# Altium integrated library FPGA Memories.IntLib: 600 symbols (part 5 of 6)
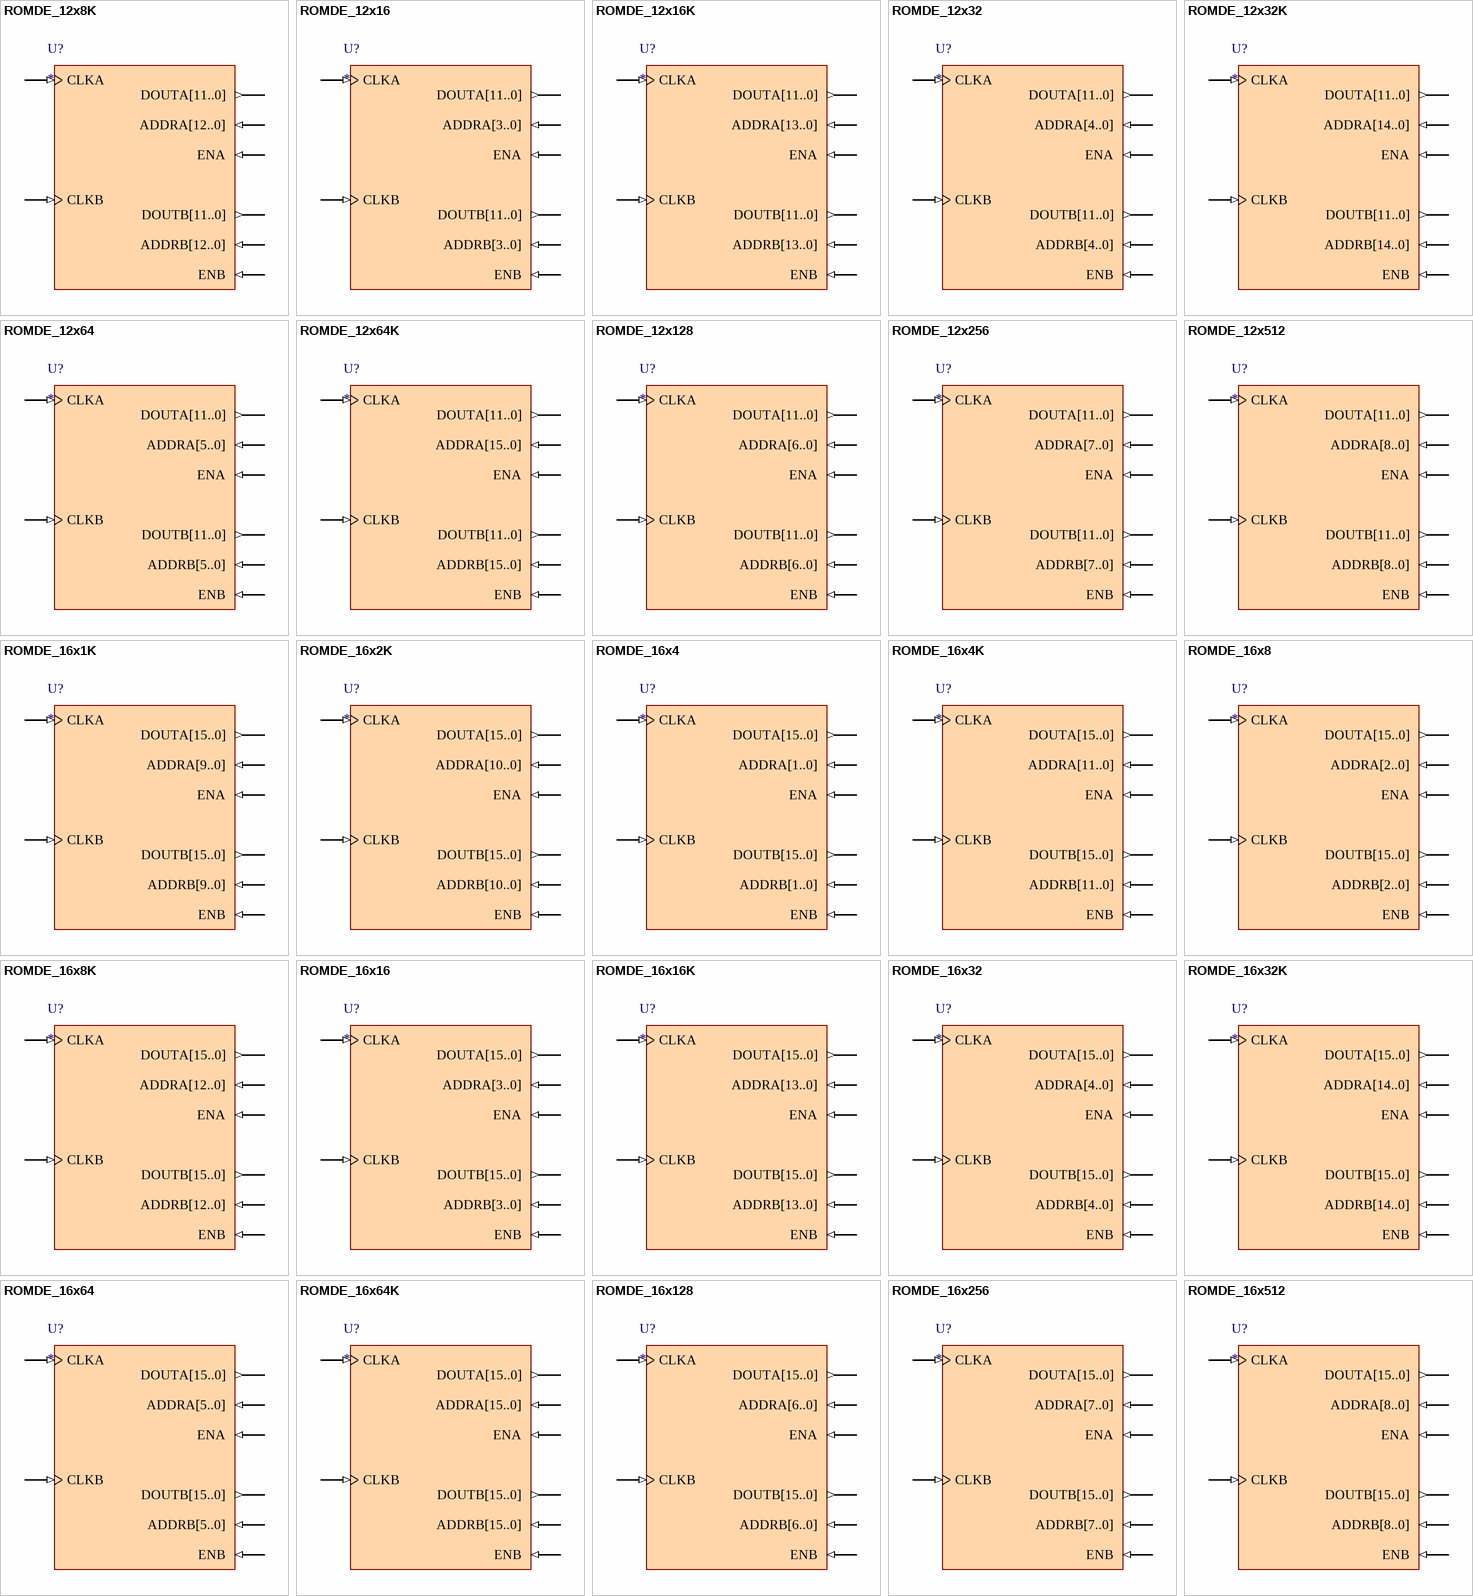
[diagram p24: symbols ROMDE_12x8K to ROMDE_16x512]

## ROMDE_12x16
designator U?
Dual Port ROM, Enable; Memory_DepthA: 16; Memory_Type: ROM_DualPortBlock; Memory_WidthA: 12; Memory_ClockEdge: Rising; Nexus_Core: Memory_Program; Memory_EnablePin: True; Memory_ByteWrites: False; Published: 11/10/2004; Publisher: Altium Hobart Technology Center; Memory_DepthB: 16; Memory_WidthB: 12
pins: ADDRA[3..0] (in), ADDRB[3..0] (in), CLKA (in), CLKB (in), DOUTA[11..0] (out), DOUTB[11..0] (out), ENA (in), ENB (in)

## ROMDE_12x16K
designator U?
Dual Port ROM, Enable; Memory_DepthA: 16384; Memory_Type: ROM_DualPortBlock; Memory_WidthA: 12; Memory_ClockEdge: Rising; Nexus_Core: Memory_Program; Memory_EnablePin: True; Memory_ByteWrites: False; Published: 11/10/2004; Publisher: Altium Hobart Technology Center; Memory_DepthB: 16384; Memory_WidthB: 12
pins: ADDRA[13..0] (in), ADDRB[13..0] (in), CLKA (in), CLKB (in), DOUTA[11..0] (out), DOUTB[11..0] (out), ENA (in), ENB (in)

## ROMDE_12x32
designator U?
Dual Port ROM, Enable; Memory_DepthA: 32; Memory_Type: ROM_DualPortBlock; Memory_WidthA: 12; Memory_ClockEdge: Rising; Nexus_Core: Memory_Program; Memory_EnablePin: True; Memory_ByteWrites: False; Published: 11/10/2004; Publisher: Altium Hobart Technology Center; Memory_DepthB: 32; Memory_WidthB: 12
pins: ADDRA[4..0] (in), ADDRB[4..0] (in), CLKA (in), CLKB (in), DOUTA[11..0] (out), DOUTB[11..0] (out), ENA (in), ENB (in)

## ROMDE_12x32K
designator U?
Dual Port ROM, Enable; Memory_DepthA: 32768; Memory_Type: ROM_DualPortBlock; Memory_WidthA: 12; Memory_ClockEdge: Rising; Nexus_Core: Memory_Program; Memory_EnablePin: True; Memory_ByteWrites: False; Published: 11/10/2004; Publisher: Altium Hobart Technology Center; Memory_DepthB: 32768; Memory_WidthB: 12
pins: ADDRA[14..0] (in), ADDRB[14..0] (in), CLKA (in), CLKB (in), DOUTA[11..0] (out), DOUTB[11..0] (out), ENA (in), ENB (in)

## ROMDE_12x64
designator U?
Dual Port ROM, Enable; Memory_DepthA: 64; Memory_Type: ROM_DualPortBlock; Memory_WidthA: 12; Memory_ClockEdge: Rising; Nexus_Core: Memory_Program; Memory_EnablePin: True; Memory_ByteWrites: False; Published: 11/10/2004; Publisher: Altium Hobart Technology Center; Memory_DepthB: 64; Memory_WidthB: 12
pins: ADDRA[5..0] (in), ADDRB[5..0] (in), CLKA (in), CLKB (in), DOUTA[11..0] (out), DOUTB[11..0] (out), ENA (in), ENB (in)

## ROMDE_12x64K
designator U?
Dual Port ROM, Enable; Memory_DepthA: 65536; Memory_Type: ROM_DualPortBlock; Memory_WidthA: 12; Memory_ClockEdge: Rising; Nexus_Core: Memory_Program; Memory_EnablePin: True; Memory_ByteWrites: False; Published: 11/10/2004; Publisher: Altium Hobart Technology Center; Memory_DepthB: 65536; Memory_WidthB: 12
pins: ADDRA[15..0] (in), ADDRB[15..0] (in), CLKA (in), CLKB (in), DOUTA[11..0] (out), DOUTB[11..0] (out), ENA (in), ENB (in)

## ROMDE_12x128
designator U?
Dual Port ROM, Enable; Memory_DepthA: 128; Memory_Type: ROM_DualPortBlock; Memory_WidthA: 12; Memory_ClockEdge: Rising; Nexus_Core: Memory_Program; Memory_EnablePin: True; Memory_ByteWrites: False; Published: 11/10/2004; Publisher: Altium Hobart Technology Center; Memory_DepthB: 128; Memory_WidthB: 12
pins: ADDRA[6..0] (in), ADDRB[6..0] (in), CLKA (in), CLKB (in), DOUTA[11..0] (out), DOUTB[11..0] (out), ENA (in), ENB (in)

## ROMDE_12x256
designator U?
Dual Port ROM, Enable; Memory_DepthA: 256; Memory_Type: ROM_DualPortBlock; Memory_WidthA: 12; Memory_ClockEdge: Rising; Nexus_Core: Memory_Program; Memory_EnablePin: True; Memory_ByteWrites: False; Published: 11/10/2004; Publisher: Altium Hobart Technology Center; Memory_DepthB: 256; Memory_WidthB: 12
pins: ADDRA[7..0] (in), ADDRB[7..0] (in), CLKA (in), CLKB (in), DOUTA[11..0] (out), DOUTB[11..0] (out), ENA (in), ENB (in)

## ROMDE_12x512
designator U?
Dual Port ROM, Enable; Memory_DepthA: 512; Memory_Type: ROM_DualPortBlock; Memory_WidthA: 12; Memory_ClockEdge: Rising; Nexus_Core: Memory_Program; Memory_EnablePin: True; Memory_ByteWrites: False; Published: 11/10/2004; Publisher: Altium Hobart Technology Center; Memory_DepthB: 512; Memory_WidthB: 12
pins: ADDRA[8..0] (in), ADDRB[8..0] (in), CLKA (in), CLKB (in), DOUTA[11..0] (out), DOUTB[11..0] (out), ENA (in), ENB (in)

## ROMDE_16x1K
designator U?
Dual Port ROM, Enable; Memory_DepthA: 1024; Memory_Type: ROM_DualPortBlock; Memory_WidthA: 16; Memory_ClockEdge: Rising; Nexus_Core: Memory_Program; Memory_EnablePin: True; Memory_ByteWrites: False; Published: 11/10/2004; Publisher: Altium Hobart Technology Center; Memory_DepthB: 1024; Memory_WidthB: 16
pins: ADDRA[9..0] (in), ADDRB[9..0] (in), CLKA (in), CLKB (in), DOUTA[15..0] (out), DOUTB[15..0] (out), ENA (in), ENB (in)

## ROMDE_16x2K
designator U?
Dual Port ROM, Enable; Memory_DepthA: 2048; Memory_Type: ROM_DualPortBlock; Memory_WidthA: 16; Memory_ClockEdge: Rising; Nexus_Core: Memory_Program; Memory_EnablePin: True; Memory_ByteWrites: False; Published: 11/10/2004; Publisher: Altium Hobart Technology Center; Memory_DepthB: 2048; Memory_WidthB: 16
pins: ADDRA[10..0] (in), ADDRB[10..0] (in), CLKA (in), CLKB (in), DOUTA[15..0] (out), DOUTB[15..0] (out), ENA (in), ENB (in)

## ROMDE_16x4
designator U?
Dual Port ROM, Enable; Memory_DepthA: 4; Memory_Type: ROM_DualPortBlock; Memory_WidthA: 16; Memory_ClockEdge: Rising; Nexus_Core: Memory_Program; Memory_EnablePin: True; Memory_ByteWrites: False; Published: 11/10/2004; Publisher: Altium Hobart Technology Center; Memory_DepthB: 4; Memory_WidthB: 16
pins: ADDRA[1..0] (in), ADDRB[1..0] (in), CLKA (in), CLKB (in), DOUTA[15..0] (out), DOUTB[15..0] (out), ENA (in), ENB (in)

## ROMDE_16x4K
designator U?
Dual Port ROM, Enable; Memory_DepthA: 4096; Memory_Type: ROM_DualPortBlock; Memory_WidthA: 16; Memory_ClockEdge: Rising; Nexus_Core: Memory_Program; Memory_EnablePin: True; Memory_ByteWrites: False; Published: 11/10/2004; Publisher: Altium Hobart Technology Center; Memory_DepthB: 4096; Memory_WidthB: 16
pins: ADDRA[11..0] (in), ADDRB[11..0] (in), CLKA (in), CLKB (in), DOUTA[15..0] (out), DOUTB[15..0] (out), ENA (in), ENB (in)

## ROMDE_16x8
designator U?
Dual Port ROM, Enable; Memory_DepthA: 8; Memory_Type: ROM_DualPortBlock; Memory_WidthA: 16; Memory_ClockEdge: Rising; Nexus_Core: Memory_Program; Memory_EnablePin: True; Memory_ByteWrites: False; Published: 11/10/2004; Publisher: Altium Hobart Technology Center; Memory_DepthB: 8; Memory_WidthB: 16
pins: ADDRA[2..0] (in), ADDRB[2..0] (in), CLKA (in), CLKB (in), DOUTA[15..0] (out), DOUTB[15..0] (out), ENA (in), ENB (in)

## ROMDE_16x8K
designator U?
Dual Port ROM, Enable; Memory_DepthA: 8192; Memory_Type: ROM_DualPortBlock; Memory_WidthA: 16; Memory_ClockEdge: Rising; Nexus_Core: Memory_Program; Memory_EnablePin: True; Memory_ByteWrites: False; Published: 11/10/2004; Publisher: Altium Hobart Technology Center; Memory_DepthB: 8192; Memory_WidthB: 16
pins: ADDRA[12..0] (in), ADDRB[12..0] (in), CLKA (in), CLKB (in), DOUTA[15..0] (out), DOUTB[15..0] (out), ENA (in), ENB (in)

## ROMDE_16x16
designator U?
Dual Port ROM, Enable; Memory_DepthA: 16; Memory_Type: ROM_DualPortBlock; Memory_ClockEdge: Rising; Nexus_Core: Memory_Program; Memory_EnablePin: True; Memory_ByteWrites: False; Published: 11/10/2004; Publisher: Altium Hobart Technology Center; Memory_DepthB: 16; Memory_WidthA: 16; Memory_WidthB: 16
pins: ADDRA[3..0] (in), ADDRB[3..0] (in), CLKA (in), CLKB (in), DOUTA[15..0] (out), DOUTB[15..0] (out), ENA (in), ENB (in)

## ROMDE_16x16K
designator U?
Dual Port ROM, Enable; Memory_DepthA: 16384; Memory_Type: ROM_DualPortBlock; Memory_WidthA: 16; Memory_ClockEdge: Rising; Nexus_Core: Memory_Program; Memory_EnablePin: True; Memory_ByteWrites: False; Published: 11/10/2004; Publisher: Altium Hobart Technology Center; Memory_DepthB: 16384; Memory_WidthB: 16
pins: ADDRA[13..0] (in), ADDRB[13..0] (in), CLKA (in), CLKB (in), DOUTA[15..0] (out), DOUTB[15..0] (out), ENA (in), ENB (in)

## ROMDE_16x32
designator U?
Dual Port ROM, Enable; Memory_DepthA: 32; Memory_Type: ROM_DualPortBlock; Memory_WidthA: 16; Memory_ClockEdge: Rising; Nexus_Core: Memory_Program; Memory_EnablePin: True; Memory_ByteWrites: False; Published: 11/10/2004; Publisher: Altium Hobart Technology Center; Memory_DepthB: 32; Memory_WidthB: 16
pins: ADDRA[4..0] (in), ADDRB[4..0] (in), CLKA (in), CLKB (in), DOUTA[15..0] (out), DOUTB[15..0] (out), ENA (in), ENB (in)

## ROMDE_16x32K
designator U?
Dual Port ROM, Enable; Memory_DepthA: 32768; Memory_Type: ROM_DualPortBlock; Memory_WidthA: 16; Memory_ClockEdge: Rising; Nexus_Core: Memory_Program; Memory_EnablePin: True; Memory_ByteWrites: False; Published: 11/10/2004; Publisher: Altium Hobart Technology Center; Memory_DepthB: 32768; Memory_WidthB: 16
pins: ADDRA[14..0] (in), ADDRB[14..0] (in), CLKA (in), CLKB (in), DOUTA[15..0] (out), DOUTB[15..0] (out), ENA (in), ENB (in)

## ROMDE_16x64
designator U?
Dual Port ROM, Enable; Memory_DepthA: 64; Memory_Type: ROM_DualPortBlock; Memory_WidthA: 16; Memory_ClockEdge: Rising; Nexus_Core: Memory_Program; Memory_EnablePin: True; Memory_ByteWrites: False; Published: 11/10/2004; Publisher: Altium Hobart Technology Center; Memory_DepthB: 64; Memory_WidthB: 16
pins: ADDRA[5..0] (in), ADDRB[5..0] (in), CLKA (in), CLKB (in), DOUTA[15..0] (out), DOUTB[15..0] (out), ENA (in), ENB (in)

## ROMDE_16x64K
designator U?
Dual Port ROM, Enable; Memory_DepthA: 65536; Memory_Type: ROM_DualPortBlock; Memory_WidthA: 16; Memory_ClockEdge: Rising; Nexus_Core: Memory_Program; Memory_EnablePin: True; Memory_ByteWrites: False; Published: 11/10/2004; Publisher: Altium Hobart Technology Center; Memory_DepthB: 65536; Memory_WidthB: 16
pins: ADDRA[15..0] (in), ADDRB[15..0] (in), CLKA (in), CLKB (in), DOUTA[15..0] (out), DOUTB[15..0] (out), ENA (in), ENB (in)

## ROMDE_16x128
designator U?
Dual Port ROM, Enable; Memory_DepthA: 128; Memory_Type: ROM_DualPortBlock; Memory_WidthA: 16; Memory_ClockEdge: Rising; Nexus_Core: Memory_Program; Memory_EnablePin: True; Memory_ByteWrites: False; Published: 11/10/2004; Publisher: Altium Hobart Technology Center; Memory_DepthB: 128; Memory_WidthB: 16
pins: ADDRA[6..0] (in), ADDRB[6..0] (in), CLKA (in), CLKB (in), DOUTA[15..0] (out), DOUTB[15..0] (out), ENA (in), ENB (in)

## ROMDE_16x256
designator U?
Dual Port ROM, Enable; Memory_DepthA: 256; Memory_Type: ROM_DualPortBlock; Memory_WidthA: 16; Memory_ClockEdge: Rising; Nexus_Core: Memory_Program; Memory_EnablePin: True; Memory_ByteWrites: False; Published: 11/10/2004; Publisher: Altium Hobart Technology Center; Memory_DepthB: 256; Memory_WidthB: 16
pins: ADDRA[7..0] (in), ADDRB[7..0] (in), CLKA (in), CLKB (in), DOUTA[15..0] (out), DOUTB[15..0] (out), ENA (in), ENB (in)

## ROMDE_16x512
designator U?
Dual Port ROM, Enable; Memory_DepthA: 512; Memory_Type: ROM_DualPortBlock; Memory_WidthA: 16; Memory_ClockEdge: Rising; Nexus_Core: Memory_Program; Memory_EnablePin: True; Memory_ByteWrites: False; Published: 11/10/2004; Publisher: Altium Hobart Technology Center; Memory_DepthB: 512; Memory_WidthB: 16
pins: ADDRA[8..0] (in), ADDRB[8..0] (in), CLKA (in), CLKB (in), DOUTA[15..0] (out), DOUTB[15..0] (out), ENA (in), ENB (in)

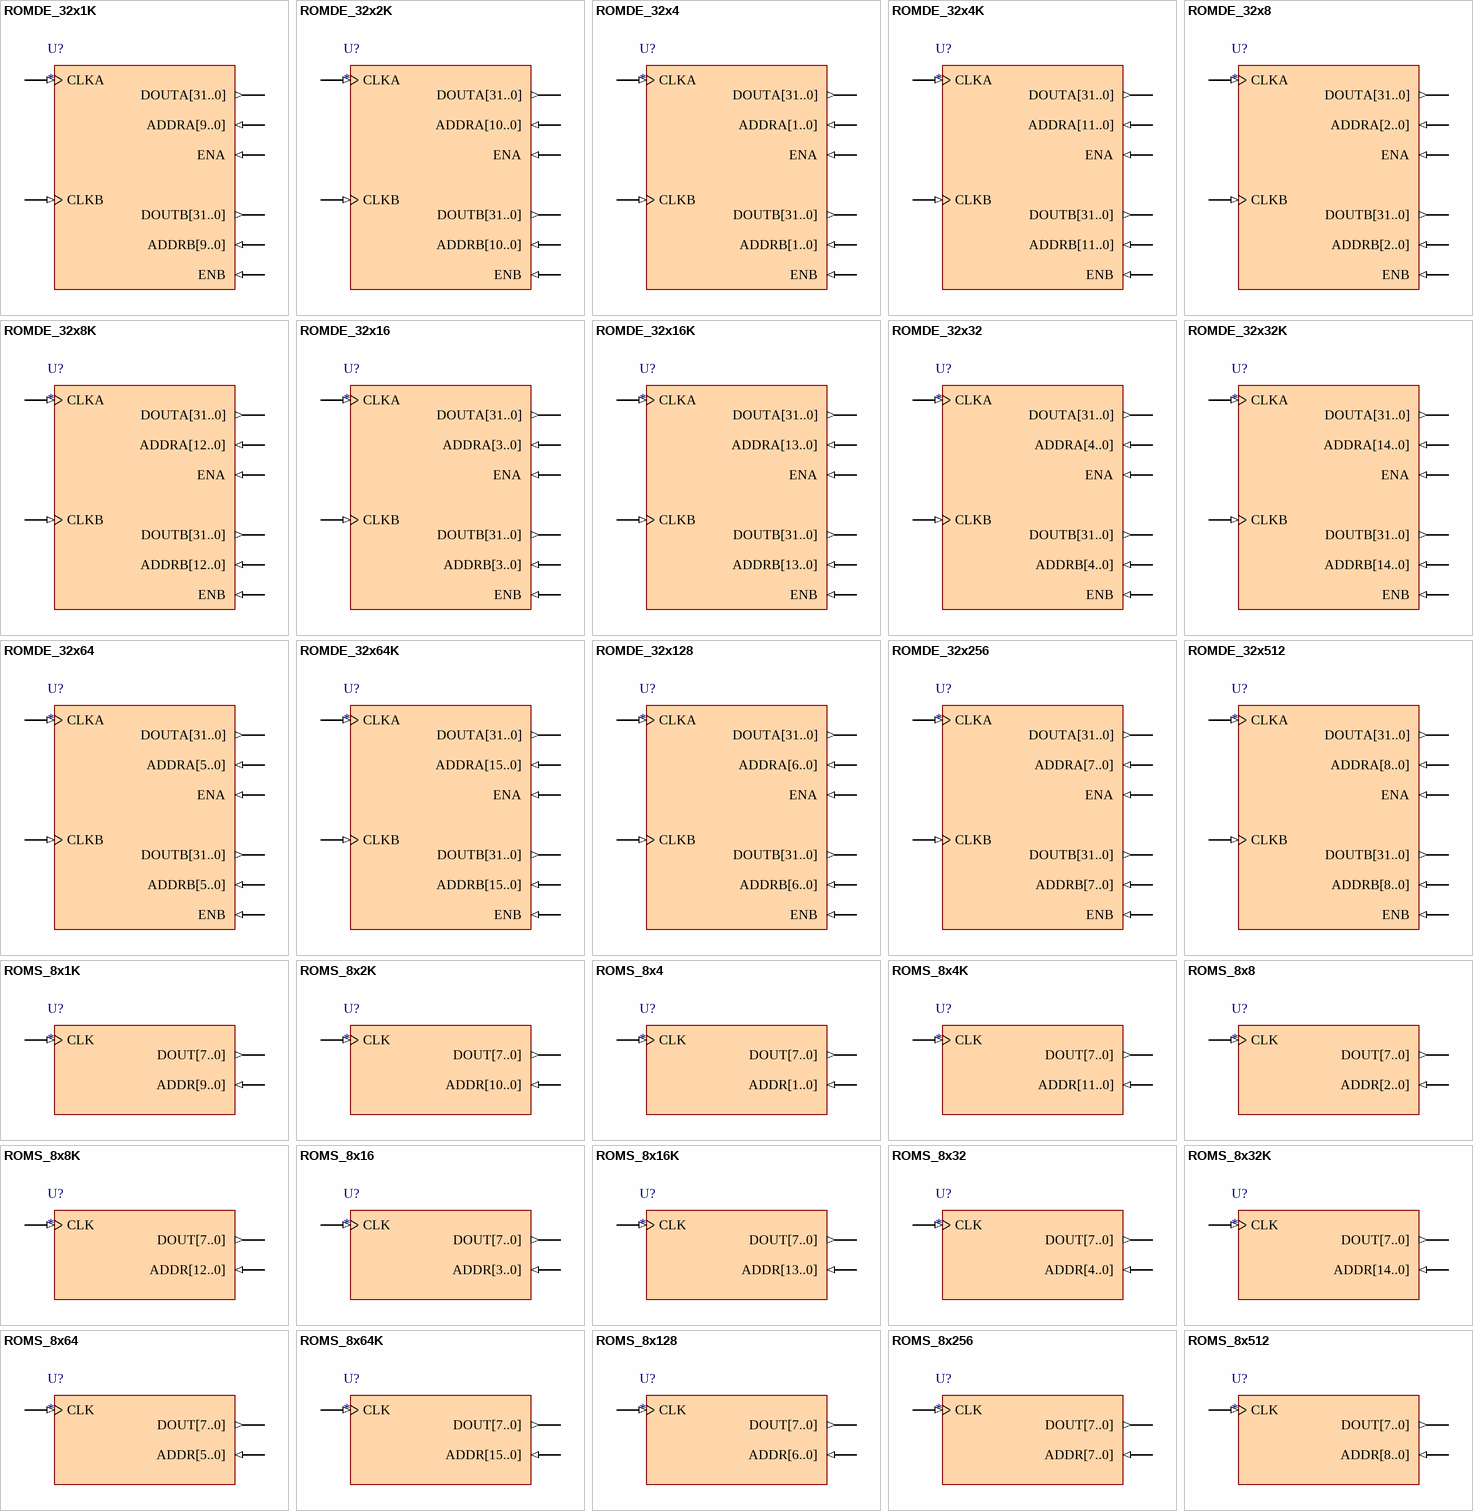
[diagram p17: symbols ROMDE_32x1K to ROMS_8x512]

## ROMDE_32x1K
designator U?
Dual Port ROM, Enable; Memory_DepthA: 1024; Memory_Type: ROM_DualPortBlock; Memory_WidthA: 32; Memory_ClockEdge: Rising; Nexus_Core: Memory_Program; Memory_EnablePin: True; Memory_ByteWrites: False; Published: 11/10/2004; Publisher: Altium Hobart Technology Center; Memory_DepthB: 1024; Memory_WidthB: 32
pins: ADDRA[9..0] (in), ADDRB[9..0] (in), CLKA (in), CLKB (in), DOUTA[31..0] (out), DOUTB[31..0] (out), ENA (in), ENB (in)

## ROMDE_32x2K
designator U?
Dual Port ROM, Enable; Memory_DepthA: 2048; Memory_Type: ROM_DualPortBlock; Memory_WidthA: 32; Memory_ClockEdge: Rising; Nexus_Core: Memory_Program; Memory_EnablePin: True; Memory_ByteWrites: False; Published: 11/10/2004; Publisher: Altium Hobart Technology Center; Memory_DepthB: 2048; Memory_WidthB: 32
pins: ADDRA[10..0] (in), ADDRB[10..0] (in), CLKA (in), CLKB (in), DOUTA[31..0] (out), DOUTB[31..0] (out), ENA (in), ENB (in)

## ROMDE_32x4
designator U?
Dual Port ROM, Enable; Memory_DepthA: 4; Memory_Type: ROM_DualPortBlock; Memory_WidthA: 32; Memory_ClockEdge: Rising; Nexus_Core: Memory_Program; Memory_EnablePin: True; Memory_ByteWrites: False; Published: 11/10/2004; Publisher: Altium Hobart Technology Center; Memory_DepthB: 4; Memory_WidthB: 32
pins: ADDRA[1..0] (in), ADDRB[1..0] (in), CLKA (in), CLKB (in), DOUTA[31..0] (out), DOUTB[31..0] (out), ENA (in), ENB (in)

## ROMDE_32x4K
designator U?
Dual Port ROM, Enable; Memory_DepthA: 4096; Memory_Type: ROM_DualPortBlock; Memory_WidthA: 32; Memory_ClockEdge: Rising; Nexus_Core: Memory_Program; Memory_EnablePin: True; Memory_ByteWrites: False; Published: 11/10/2004; Publisher: Altium Hobart Technology Center; Memory_DepthB: 4096; Memory_WidthB: 32
pins: ADDRA[11..0] (in), ADDRB[11..0] (in), CLKA (in), CLKB (in), DOUTA[31..0] (out), DOUTB[31..0] (out), ENA (in), ENB (in)

## ROMDE_32x8
designator U?
Dual Port ROM, Enable; Memory_DepthA: 8; Memory_Type: ROM_DualPortBlock; Memory_WidthA: 32; Memory_ClockEdge: Rising; Nexus_Core: Memory_Program; Memory_EnablePin: True; Memory_ByteWrites: False; Published: 11/10/2004; Publisher: Altium Hobart Technology Center; Memory_DepthB: 8; Memory_WidthB: 32
pins: ADDRA[2..0] (in), ADDRB[2..0] (in), CLKA (in), CLKB (in), DOUTA[31..0] (out), DOUTB[31..0] (out), ENA (in), ENB (in)

## ROMDE_32x8K
designator U?
Dual Port ROM, Enable; Memory_DepthA: 8192; Memory_Type: ROM_DualPortBlock; Memory_WidthA: 32; Memory_ClockEdge: Rising; Nexus_Core: Memory_Program; Memory_EnablePin: True; Memory_ByteWrites: False; Published: 11/10/2004; Publisher: Altium Hobart Technology Center; Memory_DepthB: 8192; Memory_WidthB: 32
pins: ADDRA[12..0] (in), ADDRB[12..0] (in), CLKA (in), CLKB (in), DOUTA[31..0] (out), DOUTB[31..0] (out), ENA (in), ENB (in)

## ROMDE_32x16
designator U?
Dual Port ROM, Enable; Memory_DepthA: 16; Memory_Type: ROM_DualPortBlock; Memory_WidthA: 32; Memory_ClockEdge: Rising; Nexus_Core: Memory_Program; Memory_EnablePin: True; Memory_ByteWrites: False; Published: 11/10/2004; Publisher: Altium Hobart Technology Center; Memory_DepthB: 16; Memory_WidthB: 32
pins: ADDRA[3..0] (in), ADDRB[3..0] (in), CLKA (in), CLKB (in), DOUTA[31..0] (out), DOUTB[31..0] (out), ENA (in), ENB (in)

## ROMDE_32x16K
designator U?
Dual Port ROM, Enable; Memory_DepthA: 16384; Memory_Type: ROM_DualPortBlock; Memory_WidthA: 32; Memory_ClockEdge: Rising; Nexus_Core: Memory_Program; Memory_EnablePin: True; Memory_ByteWrites: False; Published: 11/10/2004; Publisher: Altium Hobart Technology Center; Memory_DepthB: 16384; Memory_WidthB: 32
pins: ADDRA[13..0] (in), ADDRB[13..0] (in), CLKA (in), CLKB (in), DOUTA[31..0] (out), DOUTB[31..0] (out), ENA (in), ENB (in)

## ROMDE_32x32
designator U?
Dual Port ROM, Enable; Memory_DepthA: 32; Memory_Type: ROM_DualPortBlock; Memory_ClockEdge: Rising; Nexus_Core: Memory_Program; Memory_EnablePin: True; Memory_ByteWrites: False; Published: 11/10/2004; Publisher: Altium Hobart Technology Center; Memory_DepthB: 32; Memory_WidthA: 32; Memory_WidthB: 32
pins: ADDRA[4..0] (in), ADDRB[4..0] (in), CLKA (in), CLKB (in), DOUTA[31..0] (out), DOUTB[31..0] (out), ENA (in), ENB (in)

## ROMDE_32x32K
designator U?
Dual Port ROM, Enable; Memory_DepthA: 32768; Memory_Type: ROM_DualPortBlock; Memory_WidthA: 32; Memory_ClockEdge: Rising; Nexus_Core: Memory_Program; Memory_EnablePin: True; Memory_ByteWrites: False; Published: 11/10/2004; Publisher: Altium Hobart Technology Center; Memory_DepthB: 32768; Memory_WidthB: 32
pins: ADDRA[14..0] (in), ADDRB[14..0] (in), CLKA (in), CLKB (in), DOUTA[31..0] (out), DOUTB[31..0] (out), ENA (in), ENB (in)

## ROMDE_32x64
designator U?
Dual Port ROM, Enable; Memory_DepthA: 64; Memory_Type: ROM_DualPortBlock; Memory_WidthA: 32; Memory_ClockEdge: Rising; Nexus_Core: Memory_Program; Memory_EnablePin: True; Memory_ByteWrites: False; Published: 11/10/2004; Publisher: Altium Hobart Technology Center; Memory_DepthB: 64; Memory_WidthB: 32
pins: ADDRA[5..0] (in), ADDRB[5..0] (in), CLKA (in), CLKB (in), DOUTA[31..0] (out), DOUTB[31..0] (out), ENA (in), ENB (in)

## ROMDE_32x64K
designator U?
Dual Port ROM, Enable; Memory_DepthA: 65536; Memory_Type: ROM_DualPortBlock; Memory_WidthA: 32; Memory_ClockEdge: Rising; Nexus_Core: Memory_Program; Memory_EnablePin: True; Memory_ByteWrites: False; Published: 11/10/2004; Publisher: Altium Hobart Technology Center; Memory_DepthB: 65536; Memory_WidthB: 32
pins: ADDRA[15..0] (in), ADDRB[15..0] (in), CLKA (in), CLKB (in), DOUTA[31..0] (out), DOUTB[31..0] (out), ENA (in), ENB (in)

## ROMDE_32x128
designator U?
Dual Port ROM, Enable; Memory_DepthA: 128; Memory_Type: ROM_DualPortBlock; Memory_WidthA: 32; Memory_ClockEdge: Rising; Nexus_Core: Memory_Program; Memory_EnablePin: True; Memory_ByteWrites: False; Published: 11/10/2004; Publisher: Altium Hobart Technology Center; Memory_DepthB: 128; Memory_WidthB: 32
pins: ADDRA[6..0] (in), ADDRB[6..0] (in), CLKA (in), CLKB (in), DOUTA[31..0] (out), DOUTB[31..0] (out), ENA (in), ENB (in)

## ROMDE_32x256
designator U?
Dual Port ROM, Enable; Memory_DepthA: 256; Memory_Type: ROM_DualPortBlock; Memory_WidthA: 32; Memory_ClockEdge: Rising; Nexus_Core: Memory_Program; Memory_EnablePin: True; Memory_ByteWrites: False; Published: 11/10/2004; Publisher: Altium Hobart Technology Center; Memory_DepthB: 256; Memory_WidthB: 32
pins: ADDRA[7..0] (in), ADDRB[7..0] (in), CLKA (in), CLKB (in), DOUTA[31..0] (out), DOUTB[31..0] (out), ENA (in), ENB (in)

## ROMDE_32x512
designator U?
Dual Port ROM, Enable; Memory_DepthA: 512; Memory_Type: ROM_DualPortBlock; Memory_WidthA: 32; Memory_ClockEdge: Rising; Nexus_Core: Memory_Program; Memory_EnablePin: True; Memory_ByteWrites: False; Published: 11/10/2004; Publisher: Altium Hobart Technology Center; Memory_DepthB: 512; Memory_WidthB: 32
pins: ADDRA[8..0] (in), ADDRB[8..0] (in), CLKA (in), CLKB (in), DOUTA[31..0] (out), DOUTB[31..0] (out), ENA (in), ENB (in)

## ROMS_8x1K
designator U?
Single Port ROM; Memory_Depth: 1024; Memory_Type: ROM_SinglePortBlock; Memory_Width: 8; Memory_ClockEdge: Rising; Nexus_Core: Memory_Program; Memory_EnablePin: False; Published: 11/10/2004; Publisher: Altium Hobart Technology Center; Memory_ByteWrites: False
pins: ADDR[9..0] (in), CLK (in), DOUT[7..0] (out)

## ROMS_8x2K
designator U?
Single Port ROM; Memory_Depth: 2048; Memory_Type: ROM_SinglePortBlock; Memory_Width: 8; Memory_ClockEdge: Rising; Nexus_Core: Memory_Program; Memory_EnablePin: False; Published: 11/10/2004; Publisher: Altium Hobart Technology Center; Memory_ByteWrites: False
pins: ADDR[10..0] (in), CLK (in), DOUT[7..0] (out)

## ROMS_8x4
designator U?
Single Port ROM; Memory_Depth: 4; Memory_Type: ROM_SinglePortBlock; Memory_Width: 8; Memory_ClockEdge: Rising; Nexus_Core: Memory_Program; Memory_EnablePin: False; Published: 11/10/2004; Publisher: Altium Hobart Technology Center; Memory_ByteWrites: False
pins: ADDR[1..0] (in), CLK (in), DOUT[7..0] (out)

## ROMS_8x4K
designator U?
Single Port ROM; Memory_Depth: 4096; Memory_Type: ROM_SinglePortBlock; Memory_Width: 8; Memory_ClockEdge: Rising; Nexus_Core: Memory_Program; Memory_EnablePin: False; Published: 11/10/2004; Publisher: Altium Hobart Technology Center; Memory_ByteWrites: False
pins: ADDR[11..0] (in), CLK (in), DOUT[7..0] (out)

## ROMS_8x8
designator U?
Single Port ROM; Memory_Depth: 8; Memory_Type: ROM_SinglePortBlock; Memory_ClockEdge: Rising; Nexus_Core: Memory_Program; Memory_EnablePin: False; Published: 11/10/2004; Publisher: Altium Hobart Technology Center; Memory_Width: 8; Memory_ByteWrites: False
pins: ADDR[2..0] (in), CLK (in), DOUT[7..0] (out)

## ROMS_8x8K
designator U?
Single Port ROM; Memory_Depth: 8192; Memory_Type: ROM_SinglePortBlock; Memory_Width: 8; Memory_ClockEdge: Rising; Nexus_Core: Memory_Program; Memory_EnablePin: False; Published: 11/10/2004; Publisher: Altium Hobart Technology Center; Memory_ByteWrites: False
pins: ADDR[12..0] (in), CLK (in), DOUT[7..0] (out)

## ROMS_8x16
designator U?
Single Port ROM; Memory_Depth: 16; Memory_Type: ROM_SinglePortBlock; Memory_Width: 8; Memory_ClockEdge: Rising; Nexus_Core: Memory_Program; Memory_EnablePin: False; Published: 11/10/2004; Publisher: Altium Hobart Technology Center; Memory_ByteWrites: False
pins: ADDR[3..0] (in), CLK (in), DOUT[7..0] (out)

## ROMS_8x16K
designator U?
Single Port ROM; Memory_Depth: 16384; Memory_Type: ROM_SinglePortBlock; Memory_Width: 8; Memory_ClockEdge: Rising; Nexus_Core: Memory_Program; Memory_EnablePin: False; Published: 11/10/2004; Publisher: Altium Hobart Technology Center; Memory_ByteWrites: False
pins: ADDR[13..0] (in), CLK (in), DOUT[7..0] (out)

## ROMS_8x32
designator U?
Single Port ROM; Memory_Depth: 32; Memory_Type: ROM_SinglePortBlock; Memory_Width: 8; Memory_ClockEdge: Rising; Nexus_Core: Memory_Program; Memory_EnablePin: False; Published: 11/10/2004; Publisher: Altium Hobart Technology Center; Memory_ByteWrites: False
pins: ADDR[4..0] (in), CLK (in), DOUT[7..0] (out)

## ROMS_8x32K
designator U?
Single Port ROM; Memory_Depth: 32768; Memory_Type: ROM_SinglePortBlock; Memory_Width: 8; Memory_ClockEdge: Rising; Nexus_Core: Memory_Program; Memory_EnablePin: False; Published: 11/10/2004; Publisher: Altium Hobart Technology Center; Memory_ByteWrites: False
pins: ADDR[14..0] (in), CLK (in), DOUT[7..0] (out)

## ROMS_8x64
designator U?
Single Port ROM; Memory_Depth: 64; Memory_Type: ROM_SinglePortBlock; Memory_Width: 8; Memory_ClockEdge: Rising; Nexus_Core: Memory_Program; Memory_EnablePin: False; Published: 11/10/2004; Publisher: Altium Hobart Technology Center; Memory_ByteWrites: False
pins: ADDR[5..0] (in), CLK (in), DOUT[7..0] (out)

## ROMS_8x64K
designator U?
Single Port ROM; Memory_Depth: 65536; Memory_Type: ROM_SinglePortBlock; Memory_Width: 8; Memory_ClockEdge: Rising; Nexus_Core: Memory_Program; Memory_EnablePin: False; Published: 11/10/2004; Publisher: Altium Hobart Technology Center; Memory_ByteWrites: False
pins: ADDR[15..0] (in), CLK (in), DOUT[7..0] (out)

## ROMS_8x128
designator U?
Single Port ROM; Memory_Depth: 128; Memory_Type: ROM_SinglePortBlock; Memory_Width: 8; Memory_ClockEdge: Rising; Nexus_Core: Memory_Program; Memory_EnablePin: False; Published: 11/10/2004; Publisher: Altium Hobart Technology Center; Memory_ByteWrites: False
pins: ADDR[6..0] (in), CLK (in), DOUT[7..0] (out)

## ROMS_8x256
designator U?
Single Port ROM; Memory_Depth: 256; Memory_Type: ROM_SinglePortBlock; Memory_Width: 8; Memory_ClockEdge: Rising; Nexus_Core: Memory_Program; Memory_EnablePin: False; Published: 11/10/2004; Publisher: Altium Hobart Technology Center; Memory_ByteWrites: False
pins: ADDR[7..0] (in), CLK (in), DOUT[7..0] (out)

## ROMS_8x512
designator U?
Single Port ROM; Memory_Depth: 512; Memory_Type: ROM_SinglePortBlock; Memory_Width: 8; Memory_ClockEdge: Rising; Nexus_Core: Memory_Program; Memory_EnablePin: False; Published: 11/10/2004; Publisher: Altium Hobart Technology Center; Memory_ByteWrites: False
pins: ADDR[8..0] (in), CLK (in), DOUT[7..0] (out)

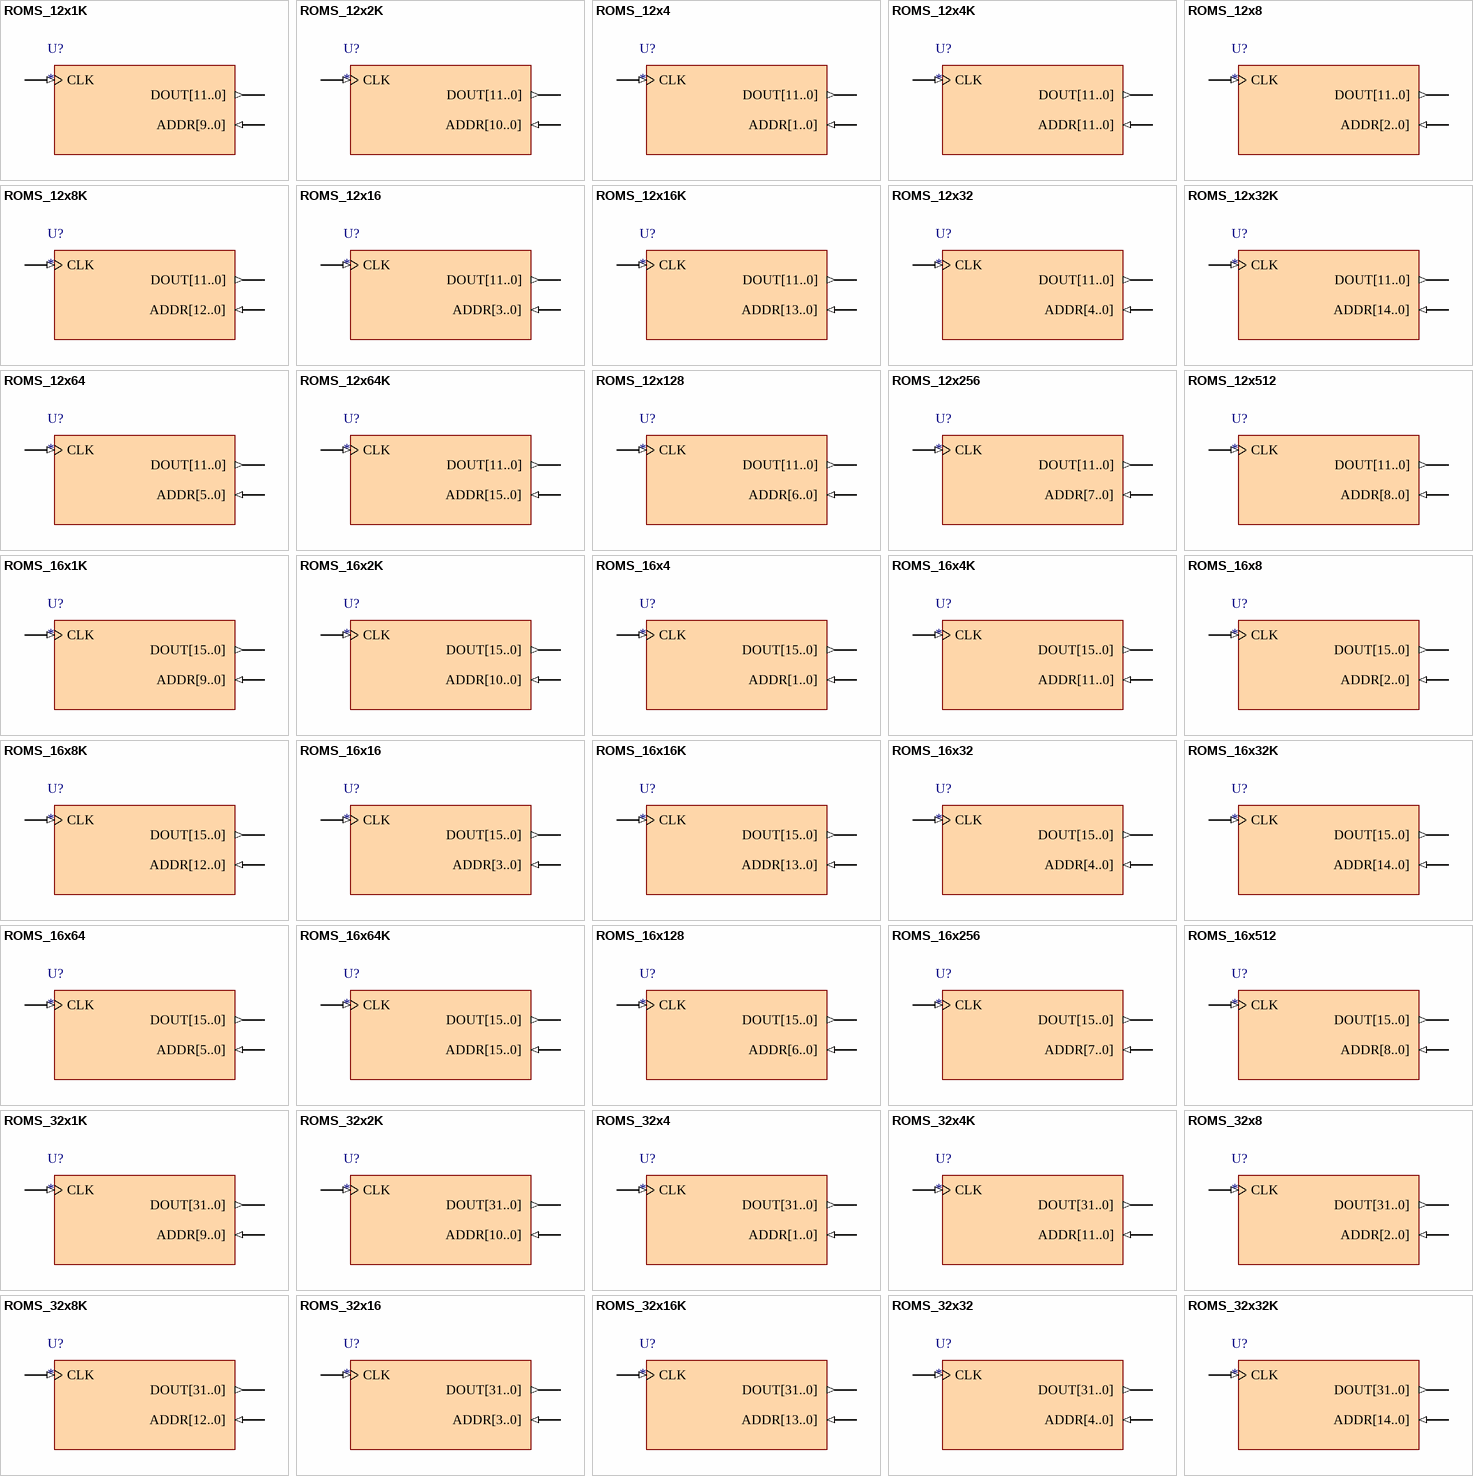
[diagram p18: symbols ROMS_12x1K to ROMS_32x32K]

## ROMS_12x1K
designator U?
Single Port ROM; Memory_Depth: 1024; Memory_Type: ROM_SinglePortBlock; Memory_Width: 12; Memory_ClockEdge: Rising; Nexus_Core: Memory_Program; Memory_EnablePin: False; Published: 11/10/2004; Publisher: Altium Hobart Technology Center; Memory_ByteWrites: False
pins: ADDR[9..0] (in), CLK (in), DOUT[11..0] (out)

## ROMS_12x2K
designator U?
Single Port ROM; Memory_Depth: 2048; Memory_Type: ROM_SinglePortBlock; Memory_Width: 12; Memory_ClockEdge: Rising; Nexus_Core: Memory_Program; Memory_EnablePin: False; Published: 11/10/2004; Publisher: Altium Hobart Technology Center; Memory_ByteWrites: False
pins: ADDR[10..0] (in), CLK (in), DOUT[11..0] (out)

## ROMS_12x4
designator U?
Single Port ROM; Memory_Depth: 4; Memory_Type: ROM_SinglePortBlock; Memory_Width: 12; Memory_ClockEdge: Rising; Nexus_Core: Memory_Program; Memory_EnablePin: False; Published: 11/10/2004; Publisher: Altium Hobart Technology Center; Memory_ByteWrites: False
pins: ADDR[1..0] (in), CLK (in), DOUT[11..0] (out)

## ROMS_12x4K
designator U?
Single Port ROM; Memory_Depth: 4096; Memory_Type: ROM_SinglePortBlock; Memory_Width: 12; Memory_ClockEdge: Rising; Nexus_Core: Memory_Program; Memory_EnablePin: False; Published: 11/10/2004; Publisher: Altium Hobart Technology Center; Memory_ByteWrites: False
pins: ADDR[11..0] (in), CLK (in), DOUT[11..0] (out)

## ROMS_12x8
designator U?
Single Port ROM; Memory_Depth: 8; Memory_Type: ROM_SinglePortBlock; Memory_Width: 12; Memory_ClockEdge: Rising; Nexus_Core: Memory_Program; Memory_EnablePin: False; Published: 11/10/2004; Publisher: Altium Hobart Technology Center; Memory_ByteWrites: False
pins: ADDR[2..0] (in), CLK (in), DOUT[11..0] (out)

## ROMS_12x8K
designator U?
Single Port ROM; Memory_Depth: 8192; Memory_Type: ROM_SinglePortBlock; Memory_Width: 12; Memory_ClockEdge: Rising; Nexus_Core: Memory_Program; Memory_EnablePin: False; Published: 11/10/2004; Publisher: Altium Hobart Technology Center; Memory_ByteWrites: False
pins: ADDR[12..0] (in), CLK (in), DOUT[11..0] (out)

## ROMS_12x16
designator U?
Single Port ROM; Memory_Depth: 16; Memory_Type: ROM_SinglePortBlock; Memory_Width: 12; Memory_ClockEdge: Rising; Nexus_Core: Memory_Program; Memory_EnablePin: False; Published: 11/10/2004; Publisher: Altium Hobart Technology Center; Memory_ByteWrites: False
pins: ADDR[3..0] (in), CLK (in), DOUT[11..0] (out)

## ROMS_12x16K
designator U?
Single Port ROM; Memory_Depth: 16384; Memory_Type: ROM_SinglePortBlock; Memory_Width: 12; Memory_ClockEdge: Rising; Nexus_Core: Memory_Program; Memory_EnablePin: False; Published: 11/10/2004; Publisher: Altium Hobart Technology Center; Memory_ByteWrites: False
pins: ADDR[13..0] (in), CLK (in), DOUT[11..0] (out)

## ROMS_12x32
designator U?
Single Port ROM; Memory_Depth: 32; Memory_Type: ROM_SinglePortBlock; Memory_Width: 12; Memory_ClockEdge: Rising; Nexus_Core: Memory_Program; Memory_EnablePin: False; Published: 11/10/2004; Publisher: Altium Hobart Technology Center; Memory_ByteWrites: False
pins: ADDR[4..0] (in), CLK (in), DOUT[11..0] (out)

## ROMS_12x32K
designator U?
Single Port ROM; Memory_Depth: 32768; Memory_Type: ROM_SinglePortBlock; Memory_Width: 12; Memory_ClockEdge: Rising; Nexus_Core: Memory_Program; Memory_EnablePin: False; Published: 11/10/2004; Publisher: Altium Hobart Technology Center; Memory_ByteWrites: False
pins: ADDR[14..0] (in), CLK (in), DOUT[11..0] (out)

## ROMS_12x64
designator U?
Single Port ROM; Memory_Depth: 64; Memory_Type: ROM_SinglePortBlock; Memory_Width: 12; Memory_ClockEdge: Rising; Nexus_Core: Memory_Program; Memory_EnablePin: False; Published: 11/10/2004; Publisher: Altium Hobart Technology Center; Memory_ByteWrites: False
pins: ADDR[5..0] (in), CLK (in), DOUT[11..0] (out)

## ROMS_12x64K
designator U?
Single Port ROM; Memory_Depth: 65536; Memory_Type: ROM_SinglePortBlock; Memory_Width: 12; Memory_ClockEdge: Rising; Nexus_Core: Memory_Program; Memory_EnablePin: False; Published: 11/10/2004; Publisher: Altium Hobart Technology Center; Memory_ByteWrites: False
pins: ADDR[15..0] (in), CLK (in), DOUT[11..0] (out)

## ROMS_12x128
designator U?
Single Port ROM; Memory_Depth: 128; Memory_Type: ROM_SinglePortBlock; Memory_Width: 12; Memory_ClockEdge: Rising; Nexus_Core: Memory_Program; Memory_EnablePin: False; Published: 11/10/2004; Publisher: Altium Hobart Technology Center; Memory_ByteWrites: False
pins: ADDR[6..0] (in), CLK (in), DOUT[11..0] (out)

## ROMS_12x256
designator U?
Single Port ROM; Memory_Depth: 256; Memory_Type: ROM_SinglePortBlock; Memory_Width: 12; Memory_ClockEdge: Rising; Nexus_Core: Memory_Program; Memory_EnablePin: False; Published: 11/10/2004; Publisher: Altium Hobart Technology Center; Memory_ByteWrites: False
pins: ADDR[7..0] (in), CLK (in), DOUT[11..0] (out)

## ROMS_12x512
designator U?
Single Port ROM; Memory_Depth: 512; Memory_Type: ROM_SinglePortBlock; Memory_Width: 12; Memory_ClockEdge: Rising; Nexus_Core: Memory_Program; Memory_EnablePin: False; Published: 11/10/2004; Publisher: Altium Hobart Technology Center; Memory_ByteWrites: False
pins: ADDR[8..0] (in), CLK (in), DOUT[11..0] (out)

## ROMS_16x1K
designator U?
Single Port ROM; Memory_Depth: 1024; Memory_Type: ROM_SinglePortBlock; Memory_Width: 16; Memory_ClockEdge: Rising; Nexus_Core: Memory_Program; Memory_EnablePin: False; Published: 11/10/2004; Publisher: Altium Hobart Technology Center; Memory_ByteWrites: False
pins: ADDR[9..0] (in), CLK (in), DOUT[15..0] (out)

## ROMS_16x2K
designator U?
Single Port ROM; Memory_Depth: 2048; Memory_Type: ROM_SinglePortBlock; Memory_Width: 16; Memory_ClockEdge: Rising; Nexus_Core: Memory_Program; Memory_EnablePin: False; Published: 11/10/2004; Publisher: Altium Hobart Technology Center; Memory_ByteWrites: False
pins: ADDR[10..0] (in), CLK (in), DOUT[15..0] (out)

## ROMS_16x4
designator U?
Single Port ROM; Memory_Depth: 4; Memory_Type: ROM_SinglePortBlock; Memory_Width: 16; Memory_ClockEdge: Rising; Nexus_Core: Memory_Program; Memory_EnablePin: False; Published: 11/10/2004; Publisher: Altium Hobart Technology Center; Memory_ByteWrites: False
pins: ADDR[1..0] (in), CLK (in), DOUT[15..0] (out)

## ROMS_16x4K
designator U?
Single Port ROM; Memory_Depth: 4096; Memory_Type: ROM_SinglePortBlock; Memory_Width: 16; Memory_ClockEdge: Rising; Nexus_Core: Memory_Program; Memory_EnablePin: False; Published: 11/10/2004; Publisher: Altium Hobart Technology Center; Memory_ByteWrites: False
pins: ADDR[11..0] (in), CLK (in), DOUT[15..0] (out)

## ROMS_16x8
designator U?
Single Port ROM; Memory_Depth: 8; Memory_Type: ROM_SinglePortBlock; Memory_Width: 16; Memory_ClockEdge: Rising; Nexus_Core: Memory_Program; Memory_EnablePin: False; Published: 11/10/2004; Publisher: Altium Hobart Technology Center; Memory_ByteWrites: False
pins: ADDR[2..0] (in), CLK (in), DOUT[15..0] (out)

## ROMS_16x8K
designator U?
Single Port ROM; Memory_Depth: 8192; Memory_Type: ROM_SinglePortBlock; Memory_Width: 16; Memory_ClockEdge: Rising; Nexus_Core: Memory_Program; Memory_EnablePin: False; Published: 11/10/2004; Publisher: Altium Hobart Technology Center; Memory_ByteWrites: False
pins: ADDR[12..0] (in), CLK (in), DOUT[15..0] (out)

## ROMS_16x16
designator U?
Single Port ROM; Memory_Depth: 16; Memory_Type: ROM_SinglePortBlock; Memory_ClockEdge: Rising; Nexus_Core: Memory_Program; Memory_EnablePin: False; Published: 11/10/2004; Publisher: Altium Hobart Technology Center; Memory_Width: 16; Memory_ByteWrites: False
pins: ADDR[3..0] (in), CLK (in), DOUT[15..0] (out)

## ROMS_16x16K
designator U?
Single Port ROM; Memory_Depth: 16384; Memory_Type: ROM_SinglePortBlock; Memory_Width: 16; Memory_ClockEdge: Rising; Nexus_Core: Memory_Program; Memory_EnablePin: False; Published: 11/10/2004; Publisher: Altium Hobart Technology Center; Memory_ByteWrites: False
pins: ADDR[13..0] (in), CLK (in), DOUT[15..0] (out)

## ROMS_16x32
designator U?
Single Port ROM; Memory_Depth: 32; Memory_Type: ROM_SinglePortBlock; Memory_Width: 16; Memory_ClockEdge: Rising; Nexus_Core: Memory_Program; Memory_EnablePin: False; Published: 11/10/2004; Publisher: Altium Hobart Technology Center; Memory_ByteWrites: False
pins: ADDR[4..0] (in), CLK (in), DOUT[15..0] (out)

## ROMS_16x32K
designator U?
Single Port ROM; Memory_Depth: 32768; Memory_Type: ROM_SinglePortBlock; Memory_Width: 16; Memory_ClockEdge: Rising; Nexus_Core: Memory_Program; Memory_EnablePin: False; Published: 11/10/2004; Publisher: Altium Hobart Technology Center; Memory_ByteWrites: False
pins: ADDR[14..0] (in), CLK (in), DOUT[15..0] (out)

## ROMS_16x64
designator U?
Single Port ROM; Memory_Depth: 64; Memory_Type: ROM_SinglePortBlock; Memory_Width: 16; Memory_ClockEdge: Rising; Nexus_Core: Memory_Program; Memory_EnablePin: False; Published: 11/10/2004; Publisher: Altium Hobart Technology Center; Memory_ByteWrites: False
pins: ADDR[5..0] (in), CLK (in), DOUT[15..0] (out)

## ROMS_16x64K
designator U?
Single Port ROM; Memory_Depth: 65536; Memory_Type: ROM_SinglePortBlock; Memory_Width: 16; Memory_ClockEdge: Rising; Nexus_Core: Memory_Program; Memory_EnablePin: False; Published: 11/10/2004; Publisher: Altium Hobart Technology Center; Memory_ByteWrites: False
pins: ADDR[15..0] (in), CLK (in), DOUT[15..0] (out)

## ROMS_16x128
designator U?
Single Port ROM; Memory_Depth: 128; Memory_Type: ROM_SinglePortBlock; Memory_Width: 16; Memory_ClockEdge: Rising; Nexus_Core: Memory_Program; Memory_EnablePin: False; Published: 11/10/2004; Publisher: Altium Hobart Technology Center; Memory_ByteWrites: False
pins: ADDR[6..0] (in), CLK (in), DOUT[15..0] (out)

## ROMS_16x256
designator U?
Single Port ROM; Memory_Depth: 256; Memory_Type: ROM_SinglePortBlock; Memory_Width: 16; Memory_ClockEdge: Rising; Nexus_Core: Memory_Program; Memory_EnablePin: False; Published: 11/10/2004; Publisher: Altium Hobart Technology Center; Memory_ByteWrites: False
pins: ADDR[7..0] (in), CLK (in), DOUT[15..0] (out)

## ROMS_16x512
designator U?
Single Port ROM; Memory_Depth: 512; Memory_Type: ROM_SinglePortBlock; Memory_Width: 16; Memory_ClockEdge: Rising; Nexus_Core: Memory_Program; Memory_EnablePin: False; Published: 11/10/2004; Publisher: Altium Hobart Technology Center; Memory_ByteWrites: False
pins: ADDR[8..0] (in), CLK (in), DOUT[15..0] (out)

## ROMS_32x1K
designator U?
Single Port ROM; Memory_Depth: 1024; Memory_Type: ROM_SinglePortBlock; Memory_Width: 32; Memory_ClockEdge: Rising; Nexus_Core: Memory_Program; Memory_EnablePin: False; Published: 11/10/2004; Publisher: Altium Hobart Technology Center; Memory_ByteWrites: False
pins: ADDR[9..0] (in), CLK (in), DOUT[31..0] (out)

## ROMS_32x2K
designator U?
Single Port ROM; Memory_Depth: 2048; Memory_Type: ROM_SinglePortBlock; Memory_Width: 32; Memory_ClockEdge: Rising; Nexus_Core: Memory_Program; Memory_EnablePin: False; Published: 11/10/2004; Publisher: Altium Hobart Technology Center; Memory_ByteWrites: False
pins: ADDR[10..0] (in), CLK (in), DOUT[31..0] (out)

## ROMS_32x4
designator U?
Single Port ROM; Memory_Depth: 4; Memory_Type: ROM_SinglePortBlock; Memory_Width: 32; Memory_ClockEdge: Rising; Nexus_Core: Memory_Program; Memory_EnablePin: False; Published: 11/10/2004; Publisher: Altium Hobart Technology Center; Memory_ByteWrites: False
pins: ADDR[1..0] (in), CLK (in), DOUT[31..0] (out)

## ROMS_32x4K
designator U?
Single Port ROM; Memory_Depth: 4096; Memory_Type: ROM_SinglePortBlock; Memory_Width: 32; Memory_ClockEdge: Rising; Nexus_Core: Memory_Program; Memory_EnablePin: False; Published: 11/10/2004; Publisher: Altium Hobart Technology Center; Memory_ByteWrites: False
pins: ADDR[11..0] (in), CLK (in), DOUT[31..0] (out)

## ROMS_32x8
designator U?
Single Port ROM; Memory_Depth: 8; Memory_Type: ROM_SinglePortBlock; Memory_Width: 32; Memory_ClockEdge: Rising; Nexus_Core: Memory_Program; Memory_EnablePin: False; Published: 11/10/2004; Publisher: Altium Hobart Technology Center; Memory_ByteWrites: False
pins: ADDR[2..0] (in), CLK (in), DOUT[31..0] (out)

## ROMS_32x8K
designator U?
Single Port ROM; Memory_Depth: 8192; Memory_Type: ROM_SinglePortBlock; Memory_Width: 32; Memory_ClockEdge: Rising; Nexus_Core: Memory_Program; Memory_EnablePin: False; Published: 11/10/2004; Publisher: Altium Hobart Technology Center; Memory_ByteWrites: False
pins: ADDR[12..0] (in), CLK (in), DOUT[31..0] (out)

## ROMS_32x16
designator U?
Single Port ROM; Memory_Depth: 16; Memory_Type: ROM_SinglePortBlock; Memory_Width: 32; Memory_ClockEdge: Rising; Nexus_Core: Memory_Program; Memory_EnablePin: False; Published: 11/10/2004; Publisher: Altium Hobart Technology Center; Memory_ByteWrites: False
pins: ADDR[3..0] (in), CLK (in), DOUT[31..0] (out)

## ROMS_32x16K
designator U?
Single Port ROM; Memory_Depth: 16384; Memory_Type: ROM_SinglePortBlock; Memory_Width: 32; Memory_ClockEdge: Rising; Nexus_Core: Memory_Program; Memory_EnablePin: False; Published: 11/10/2004; Publisher: Altium Hobart Technology Center; Memory_ByteWrites: False
pins: ADDR[13..0] (in), CLK (in), DOUT[31..0] (out)

## ROMS_32x32
designator U?
Single Port ROM; Memory_Depth: 32; Memory_Type: ROM_SinglePortBlock; Memory_ClockEdge: Rising; Nexus_Core: Memory_Program; Memory_EnablePin: False; Published: 11/10/2004; Publisher: Altium Hobart Technology Center; Memory_Width: 32; Memory_ByteWrites: False
pins: ADDR[4..0] (in), CLK (in), DOUT[31..0] (out)

## ROMS_32x32K
designator U?
Single Port ROM; Memory_Depth: 32768; Memory_Type: ROM_SinglePortBlock; Memory_Width: 32; Memory_ClockEdge: Rising; Nexus_Core: Memory_Program; Memory_EnablePin: False; Published: 11/10/2004; Publisher: Altium Hobart Technology Center; Memory_ByteWrites: False
pins: ADDR[14..0] (in), CLK (in), DOUT[31..0] (out)

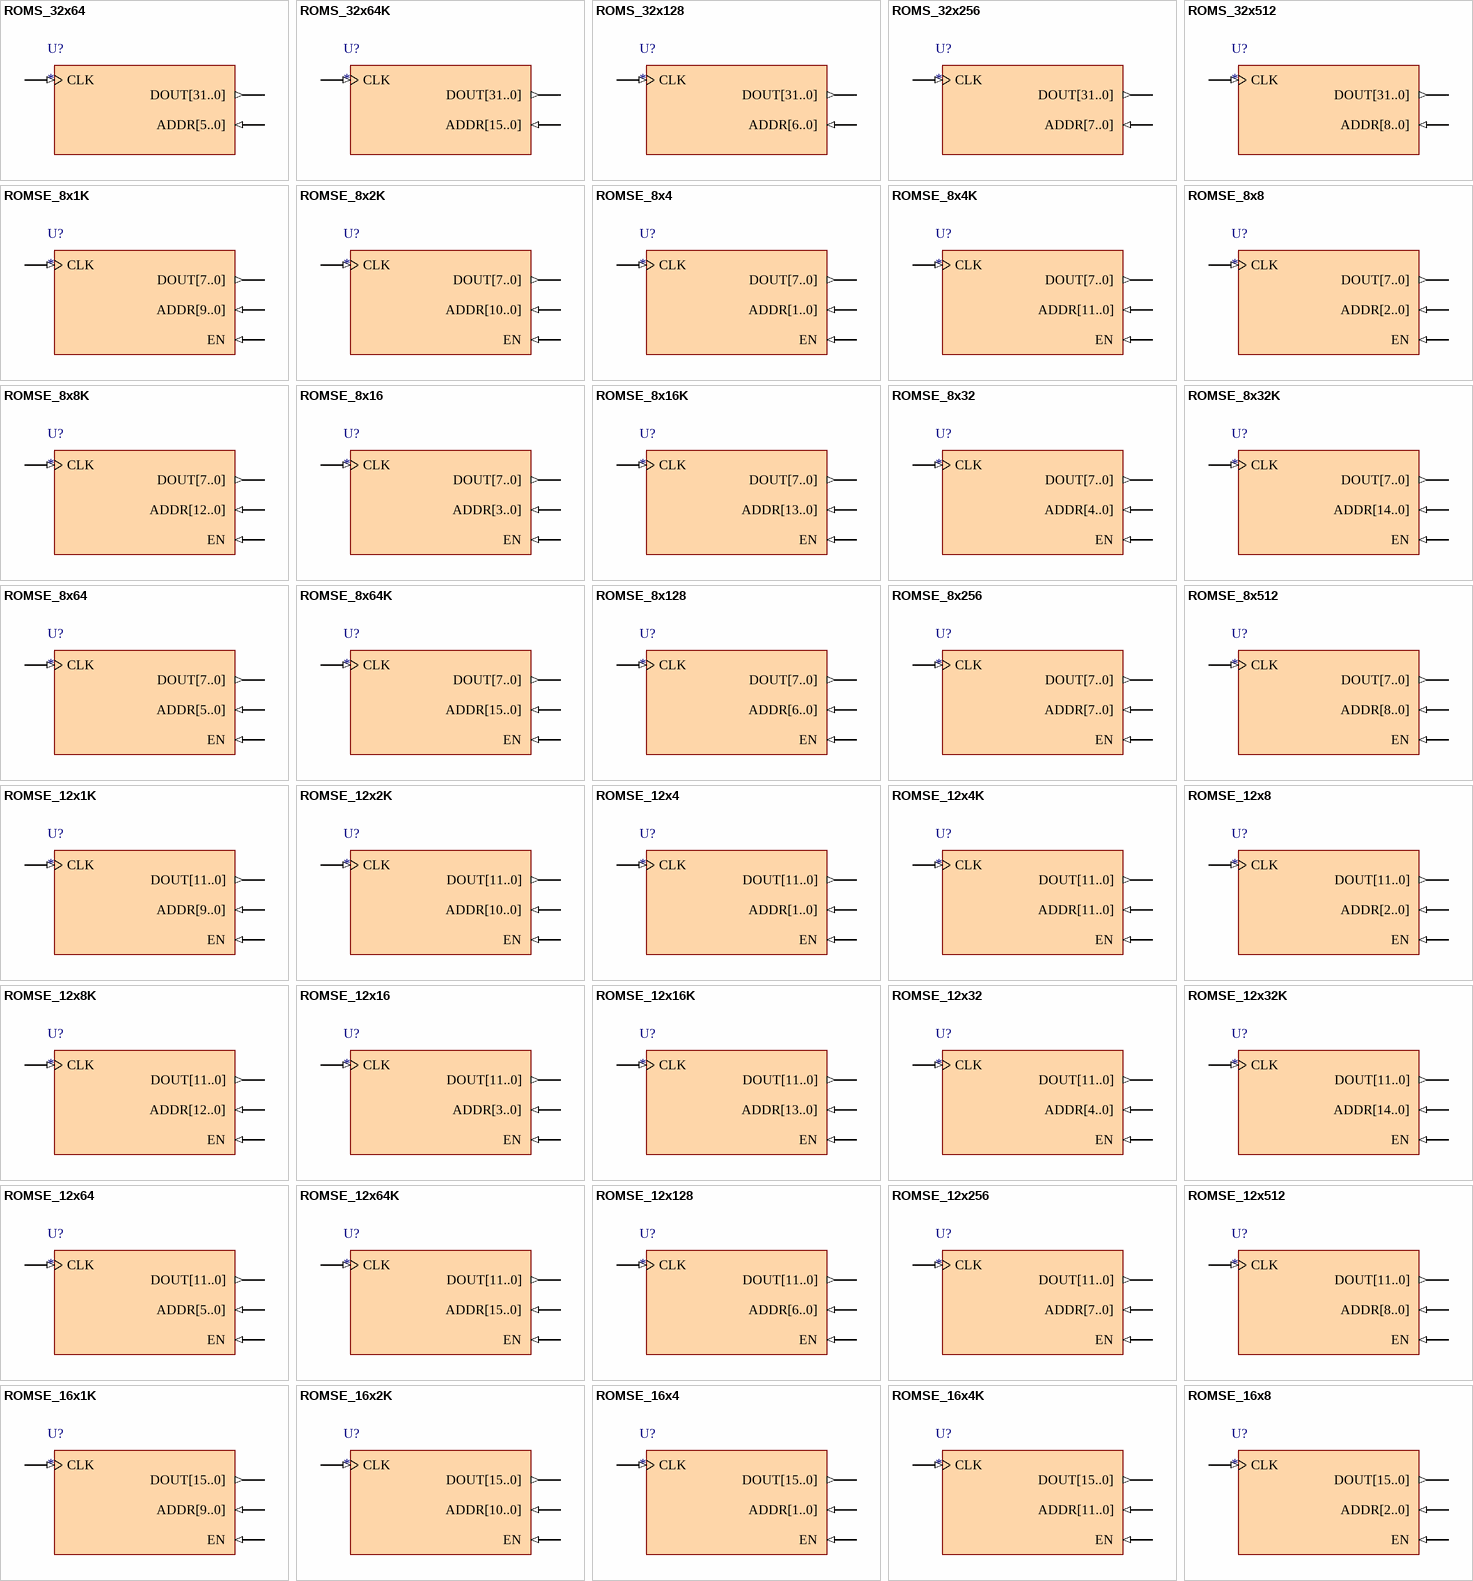
[diagram p19: symbols ROMS_32x64 to ROMSE_16x8]

## ROMS_32x64
designator U?
Single Port ROM; Memory_Depth: 64; Memory_Type: ROM_SinglePortBlock; Memory_Width: 32; Memory_ClockEdge: Rising; Nexus_Core: Memory_Program; Memory_EnablePin: False; Published: 11/10/2004; Publisher: Altium Hobart Technology Center; Memory_ByteWrites: False
pins: ADDR[5..0] (in), CLK (in), DOUT[31..0] (out)

## ROMS_32x64K
designator U?
Single Port ROM; Memory_Depth: 65536; Memory_Type: ROM_SinglePortBlock; Memory_Width: 32; Memory_ClockEdge: Rising; Nexus_Core: Memory_Program; Memory_EnablePin: False; Published: 11/10/2004; Publisher: Altium Hobart Technology Center; Memory_ByteWrites: False
pins: ADDR[15..0] (in), CLK (in), DOUT[31..0] (out)

## ROMS_32x128
designator U?
Single Port ROM; Memory_Depth: 128; Memory_Type: ROM_SinglePortBlock; Memory_Width: 32; Memory_ClockEdge: Rising; Nexus_Core: Memory_Program; Memory_EnablePin: False; Published: 11/10/2004; Publisher: Altium Hobart Technology Center; Memory_ByteWrites: False
pins: ADDR[6..0] (in), CLK (in), DOUT[31..0] (out)

## ROMS_32x256
designator U?
Single Port ROM; Memory_Depth: 256; Memory_Type: ROM_SinglePortBlock; Memory_Width: 32; Memory_ClockEdge: Rising; Nexus_Core: Memory_Program; Memory_EnablePin: False; Published: 11/10/2004; Publisher: Altium Hobart Technology Center; Memory_ByteWrites: False
pins: ADDR[7..0] (in), CLK (in), DOUT[31..0] (out)

## ROMS_32x512
designator U?
Single Port ROM; Memory_Depth: 512; Memory_Type: ROM_SinglePortBlock; Memory_Width: 32; Memory_ClockEdge: Rising; Nexus_Core: Memory_Program; Memory_EnablePin: False; Published: 11/10/2004; Publisher: Altium Hobart Technology Center; Memory_ByteWrites: False
pins: ADDR[8..0] (in), CLK (in), DOUT[31..0] (out)

## ROMSE_8x1K
designator U?
Single Port ROM, Enable; Memory_Depth: 1024; Memory_Type: ROM_SinglePortBlock; Memory_Width: 8; Memory_ClockEdge: Rising; Nexus_Core: Memory_Program; Memory_EnablePin: True; Memory_ByteWrites: False; Published: 11/10/2004; Publisher: Altium Hobart Technology Center
pins: ADDR[9..0] (in), CLK (in), DOUT[7..0] (out), EN (in)

## ROMSE_8x2K
designator U?
Single Port ROM, Enable; Memory_Depth: 2048; Memory_Type: ROM_SinglePortBlock; Memory_Width: 8; Memory_ClockEdge: Rising; Nexus_Core: Memory_Program; Memory_EnablePin: True; Memory_ByteWrites: False; Published: 11/10/2004; Publisher: Altium Hobart Technology Center
pins: ADDR[10..0] (in), CLK (in), DOUT[7..0] (out), EN (in)

## ROMSE_8x4
designator U?
Single Port ROM, Enable; Memory_Depth: 4; Memory_Type: ROM_SinglePortBlock; Memory_Width: 8; Memory_ClockEdge: Rising; Nexus_Core: Memory_Program; Memory_EnablePin: True; Memory_ByteWrites: False; Published: 11/10/2004; Publisher: Altium Hobart Technology Center
pins: ADDR[1..0] (in), CLK (in), DOUT[7..0] (out), EN (in)

## ROMSE_8x4K
designator U?
Single Port ROM, Enable; Memory_Depth: 4096; Memory_Type: ROM_SinglePortBlock; Memory_Width: 8; Memory_ClockEdge: Rising; Nexus_Core: Memory_Program; Memory_EnablePin: True; Memory_ByteWrites: False; Published: 11/10/2004; Publisher: Altium Hobart Technology Center
pins: ADDR[11..0] (in), CLK (in), DOUT[7..0] (out), EN (in)

## ROMSE_8x8
designator U?
Single Port ROM, Enable; Memory_Depth: 8; Memory_Type: ROM_SinglePortBlock; Memory_ClockEdge: Rising; Nexus_Core: Memory_Program; Memory_EnablePin: True; Memory_ByteWrites: False; Published: 11/10/2004; Publisher: Altium Hobart Technology Center; Memory_Width: 8
pins: ADDR[2..0] (in), CLK (in), DOUT[7..0] (out), EN (in)

## ROMSE_8x8K
designator U?
Single Port ROM, Enable; Memory_Depth: 8192; Memory_Type: ROM_SinglePortBlock; Memory_Width: 8; Memory_ClockEdge: Rising; Nexus_Core: Memory_Program; Memory_EnablePin: True; Memory_ByteWrites: False; Published: 11/10/2004; Publisher: Altium Hobart Technology Center
pins: ADDR[12..0] (in), CLK (in), DOUT[7..0] (out), EN (in)

## ROMSE_8x16
designator U?
Single Port ROM, Enable; Memory_Depth: 16; Memory_Type: ROM_SinglePortBlock; Memory_Width: 8; Memory_ClockEdge: Rising; Nexus_Core: Memory_Program; Memory_EnablePin: True; Memory_ByteWrites: False; Published: 11/10/2004; Publisher: Altium Hobart Technology Center
pins: ADDR[3..0] (in), CLK (in), DOUT[7..0] (out), EN (in)

## ROMSE_8x16K
designator U?
Single Port ROM, Enable; Memory_Depth: 16384; Memory_Type: ROM_SinglePortBlock; Memory_Width: 8; Memory_ClockEdge: Rising; Nexus_Core: Memory_Program; Memory_EnablePin: True; Memory_ByteWrites: False; Published: 11/10/2004; Publisher: Altium Hobart Technology Center
pins: ADDR[13..0] (in), CLK (in), DOUT[7..0] (out), EN (in)

## ROMSE_8x32
designator U?
Single Port ROM, Enable; Memory_Depth: 32; Memory_Type: ROM_SinglePortBlock; Memory_Width: 8; Memory_ClockEdge: Rising; Nexus_Core: Memory_Program; Memory_EnablePin: True; Memory_ByteWrites: False; Published: 11/10/2004; Publisher: Altium Hobart Technology Center
pins: ADDR[4..0] (in), CLK (in), DOUT[7..0] (out), EN (in)

## ROMSE_8x32K
designator U?
Single Port ROM, Enable; Memory_Depth: 32768; Memory_Type: ROM_SinglePortBlock; Memory_Width: 8; Memory_ClockEdge: Rising; Nexus_Core: Memory_Program; Memory_EnablePin: True; Memory_ByteWrites: False; Published: 11/10/2004; Publisher: Altium Hobart Technology Center
pins: ADDR[14..0] (in), CLK (in), DOUT[7..0] (out), EN (in)

## ROMSE_8x64
designator U?
Single Port ROM, Enable; Memory_Depth: 64; Memory_Type: ROM_SinglePortBlock; Memory_Width: 8; Memory_ClockEdge: Rising; Nexus_Core: Memory_Program; Memory_EnablePin: True; Memory_ByteWrites: False; Published: 11/10/2004; Publisher: Altium Hobart Technology Center
pins: ADDR[5..0] (in), CLK (in), DOUT[7..0] (out), EN (in)

## ROMSE_8x64K
designator U?
Single Port ROM, Enable; Memory_Depth: 65536; Memory_Type: ROM_SinglePortBlock; Memory_Width: 8; Memory_ClockEdge: Rising; Nexus_Core: Memory_Program; Memory_EnablePin: True; Memory_ByteWrites: False; Published: 11/10/2004; Publisher: Altium Hobart Technology Center
pins: ADDR[15..0] (in), CLK (in), DOUT[7..0] (out), EN (in)

## ROMSE_8x128
designator U?
Single Port ROM, Enable; Memory_Depth: 128; Memory_Type: ROM_SinglePortBlock; Memory_Width: 8; Memory_ClockEdge: Rising; Nexus_Core: Memory_Program; Memory_EnablePin: True; Memory_ByteWrites: False; Published: 11/10/2004; Publisher: Altium Hobart Technology Center
pins: ADDR[6..0] (in), CLK (in), DOUT[7..0] (out), EN (in)

## ROMSE_8x256
designator U?
Single Port ROM, Enable; Memory_Depth: 256; Memory_Type: ROM_SinglePortBlock; Memory_Width: 8; Memory_ClockEdge: Rising; Nexus_Core: Memory_Program; Memory_EnablePin: True; Memory_ByteWrites: False; Published: 11/10/2004; Publisher: Altium Hobart Technology Center
pins: ADDR[7..0] (in), CLK (in), DOUT[7..0] (out), EN (in)

## ROMSE_8x512
designator U?
Single Port ROM, Enable; Memory_Depth: 512; Memory_Type: ROM_SinglePortBlock; Memory_Width: 8; Memory_ClockEdge: Rising; Nexus_Core: Memory_Program; Memory_EnablePin: True; Memory_ByteWrites: False; Published: 11/10/2004; Publisher: Altium Hobart Technology Center
pins: ADDR[8..0] (in), CLK (in), DOUT[7..0] (out), EN (in)

## ROMSE_12x1K
designator U?
Single Port ROM, Enable; Memory_Depth: 1024; Memory_Type: ROM_SinglePortBlock; Memory_Width: 12; Memory_ClockEdge: Rising; Nexus_Core: Memory_Program; Memory_EnablePin: True; Memory_ByteWrites: False; Published: 11/10/2004; Publisher: Altium Hobart Technology Center
pins: ADDR[9..0] (in), CLK (in), DOUT[11..0] (out), EN (in)

## ROMSE_12x2K
designator U?
Single Port ROM, Enable; Memory_Depth: 2048; Memory_Type: ROM_SinglePortBlock; Memory_Width: 12; Memory_ClockEdge: Rising; Nexus_Core: Memory_Program; Memory_EnablePin: True; Memory_ByteWrites: False; Published: 11/10/2004; Publisher: Altium Hobart Technology Center
pins: ADDR[10..0] (in), CLK (in), DOUT[11..0] (out), EN (in)

## ROMSE_12x4
designator U?
Single Port ROM, Enable; Memory_Depth: 4; Memory_Type: ROM_SinglePortBlock; Memory_Width: 12; Memory_ClockEdge: Rising; Nexus_Core: Memory_Program; Memory_EnablePin: True; Memory_ByteWrites: False; Published: 11/10/2004; Publisher: Altium Hobart Technology Center
pins: ADDR[1..0] (in), CLK (in), DOUT[11..0] (out), EN (in)

## ROMSE_12x4K
designator U?
Single Port ROM, Enable; Memory_Depth: 4096; Memory_Type: ROM_SinglePortBlock; Memory_Width: 12; Memory_ClockEdge: Rising; Nexus_Core: Memory_Program; Memory_EnablePin: True; Memory_ByteWrites: False; Published: 11/10/2004; Publisher: Altium Hobart Technology Center
pins: ADDR[11..0] (in), CLK (in), DOUT[11..0] (out), EN (in)

## ROMSE_12x8
designator U?
Single Port ROM, Enable; Memory_Depth: 8; Memory_Type: ROM_SinglePortBlock; Memory_Width: 12; Memory_ClockEdge: Rising; Nexus_Core: Memory_Program; Memory_EnablePin: True; Memory_ByteWrites: False; Published: 11/10/2004; Publisher: Altium Hobart Technology Center
pins: ADDR[2..0] (in), CLK (in), DOUT[11..0] (out), EN (in)

## ROMSE_12x8K
designator U?
Single Port ROM, Enable; Memory_Depth: 8192; Memory_Type: ROM_SinglePortBlock; Memory_Width: 12; Memory_ClockEdge: Rising; Nexus_Core: Memory_Program; Memory_EnablePin: True; Memory_ByteWrites: False; Published: 11/10/2004; Publisher: Altium Hobart Technology Center
pins: ADDR[12..0] (in), CLK (in), DOUT[11..0] (out), EN (in)

## ROMSE_12x16
designator U?
Single Port ROM, Enable; Memory_Depth: 16; Memory_Type: ROM_SinglePortBlock; Memory_Width: 12; Memory_ClockEdge: Rising; Nexus_Core: Memory_Program; Memory_EnablePin: True; Memory_ByteWrites: False; Published: 11/10/2004; Publisher: Altium Hobart Technology Center
pins: ADDR[3..0] (in), CLK (in), DOUT[11..0] (out), EN (in)

## ROMSE_12x16K
designator U?
Single Port ROM, Enable; Memory_Depth: 16384; Memory_Type: ROM_SinglePortBlock; Memory_Width: 12; Memory_ClockEdge: Rising; Nexus_Core: Memory_Program; Memory_EnablePin: True; Memory_ByteWrites: False; Published: 11/10/2004; Publisher: Altium Hobart Technology Center
pins: ADDR[13..0] (in), CLK (in), DOUT[11..0] (out), EN (in)

## ROMSE_12x32
designator U?
Single Port ROM, Enable; Memory_Depth: 32; Memory_Type: ROM_SinglePortBlock; Memory_Width: 12; Memory_ClockEdge: Rising; Nexus_Core: Memory_Program; Memory_EnablePin: True; Memory_ByteWrites: False; Published: 11/10/2004; Publisher: Altium Hobart Technology Center
pins: ADDR[4..0] (in), CLK (in), DOUT[11..0] (out), EN (in)

## ROMSE_12x32K
designator U?
Single Port ROM, Enable; Memory_Depth: 32768; Memory_Type: ROM_SinglePortBlock; Memory_Width: 12; Memory_ClockEdge: Rising; Nexus_Core: Memory_Program; Memory_EnablePin: True; Memory_ByteWrites: False; Published: 11/10/2004; Publisher: Altium Hobart Technology Center
pins: ADDR[14..0] (in), CLK (in), DOUT[11..0] (out), EN (in)

## ROMSE_12x64
designator U?
Single Port ROM, Enable; Memory_Depth: 64; Memory_Type: ROM_SinglePortBlock; Memory_Width: 12; Memory_ClockEdge: Rising; Nexus_Core: Memory_Program; Memory_EnablePin: True; Memory_ByteWrites: False; Published: 11/10/2004; Publisher: Altium Hobart Technology Center
pins: ADDR[5..0] (in), CLK (in), DOUT[11..0] (out), EN (in)

## ROMSE_12x64K
designator U?
Single Port ROM, Enable; Memory_Depth: 65536; Memory_Type: ROM_SinglePortBlock; Memory_Width: 12; Memory_ClockEdge: Rising; Nexus_Core: Memory_Program; Memory_EnablePin: True; Memory_ByteWrites: False; Published: 11/10/2004; Publisher: Altium Hobart Technology Center
pins: ADDR[15..0] (in), CLK (in), DOUT[11..0] (out), EN (in)

## ROMSE_12x128
designator U?
Single Port ROM, Enable; Memory_Depth: 128; Memory_Type: ROM_SinglePortBlock; Memory_Width: 12; Memory_ClockEdge: Rising; Nexus_Core: Memory_Program; Memory_EnablePin: True; Memory_ByteWrites: False; Published: 11/10/2004; Publisher: Altium Hobart Technology Center
pins: ADDR[6..0] (in), CLK (in), DOUT[11..0] (out), EN (in)

## ROMSE_12x256
designator U?
Single Port ROM, Enable; Memory_Depth: 256; Memory_Type: ROM_SinglePortBlock; Memory_Width: 12; Memory_ClockEdge: Rising; Nexus_Core: Memory_Program; Memory_EnablePin: True; Memory_ByteWrites: False; Published: 11/10/2004; Publisher: Altium Hobart Technology Center
pins: ADDR[7..0] (in), CLK (in), DOUT[11..0] (out), EN (in)

## ROMSE_12x512
designator U?
Single Port ROM, Enable; Memory_Depth: 512; Memory_Type: ROM_SinglePortBlock; Memory_Width: 12; Memory_ClockEdge: Rising; Nexus_Core: Memory_Program; Memory_EnablePin: True; Memory_ByteWrites: False; Published: 11/10/2004; Publisher: Altium Hobart Technology Center
pins: ADDR[8..0] (in), CLK (in), DOUT[11..0] (out), EN (in)

## ROMSE_16x1K
designator U?
Single Port ROM, Enable; Memory_Depth: 1024; Memory_Type: ROM_SinglePortBlock; Memory_Width: 16; Memory_ClockEdge: Rising; Nexus_Core: Memory_Program; Memory_EnablePin: True; Memory_ByteWrites: False; Published: 11/10/2004; Publisher: Altium Hobart Technology Center
pins: ADDR[9..0] (in), CLK (in), DOUT[15..0] (out), EN (in)

## ROMSE_16x2K
designator U?
Single Port ROM, Enable; Memory_Depth: 2048; Memory_Type: ROM_SinglePortBlock; Memory_Width: 16; Memory_ClockEdge: Rising; Nexus_Core: Memory_Program; Memory_EnablePin: True; Memory_ByteWrites: False; Published: 11/10/2004; Publisher: Altium Hobart Technology Center
pins: ADDR[10..0] (in), CLK (in), DOUT[15..0] (out), EN (in)